# EAGLE library part MMZ09332BT1 (library CubeSat3)
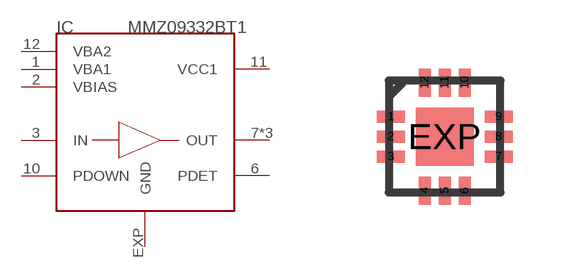
[diagram p4: symbol with the pads of QFN3X3-6; footprint QFN3X3-6]

Designator prefix IC

## MMZ09332BT1  [QFN3X3-6]
1  VBA1  in
2  VBIAS  in
3  IN  in
6  PDET  out
7  OUT  pas
8  OUT  pas
9  OUT  pas
10  PDOWN  in
11  VCC1  pas
12  VBA2  in
EXP  GND  pwr

## Footprint QFN3X3-6 (pad centres in mm)
16-Lead Plastic QFN (3mm × 3mm) Auto generated by make-symbol-device-package-bsdl.ulp Rev. 44 Source: http://cds.linear.com/docs/en/datasheet/3645f.pdf
smd 0.7 x 0.3: 1 -1.35,0.5; 2 -1.35,0; 3 -1.35,-0.5; 7 1.35,-0.5; 8 1.35,0; 9 1.35,0.5
smd 0.3 x 0.7: 4 -0.5,-1.35; 5 0,-1.35; 6 0.5,-1.35; 10 0.5,1.35; 11 0,1.35; 12 -0.5,1.35
smd 1.45 x 1.45: EXP 0,0